# EAGLE library part DF9-31 (library Connectors)
Hirose DF9 Series SMD connector 31-pin connector
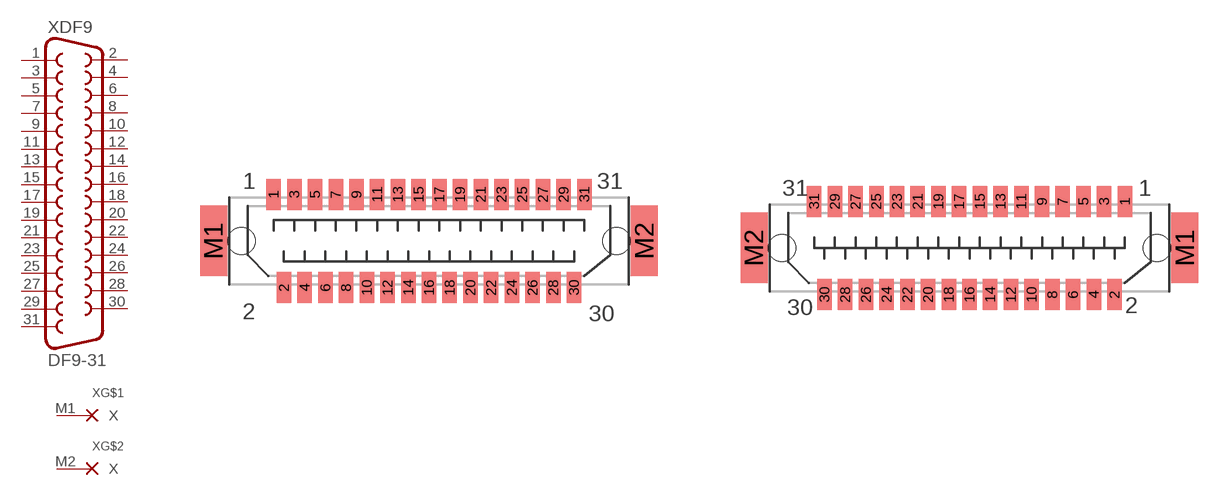
[diagram p1: symbol with the pads of DF9-31S; footprints DF9-31S, DF9-31P]

Designator prefix X; gates DF9=DF9-31 G$1=PIN_NC G$2=PIN_NC

## DF9-31S (DIGIKEY: H10406CT-ND; GENDER: Receptacle; MPN: DF9-31S-1V(32); PINS: 31)  [DF9-31S]
1  DF9:1  pas
2  DF9:2  pas
3  DF9:3  pas
4  DF9:4  pas
5  DF9:5  pas
6  DF9:6  pas
7  DF9:7  pas
8  DF9:8  pas
9  DF9:9  pas
10  DF9:10  pas
11  DF9:11  pas
12  DF9:12  pas
13  DF9:13  pas
14  DF9:14  pas
15  DF9:15  pas
16  DF9:16  pas
17  DF9:17  pas
18  DF9:18  pas
19  DF9:19  pas
20  DF9:20  pas
21  DF9:21  pas
22  DF9:22  pas
23  DF9:23  pas
24  DF9:24  pas
25  DF9:25  pas
26  DF9:26  pas
27  DF9:27  pas
28  DF9:28  pas
29  DF9:29  pas
30  DF9:30  pas
31  DF9:31  pas
M1  G$1:X  nc
M2  G$2:X  nc

## DF9-31P (DIIGKEY: H10418CT-ND; GENDER: Header; MPN: DF9-31P-1V(32); PINS: 31)  [DF9-31P]
Pads as for DF9-31S

## Footprint DF9-31S (pad centres in mm)
CONNECTOR
smd 0.7 x 1.5: 1 -7.5,2.25; 2 -7,-2.25; 3 -6.5,2.25; 4 -6,-2.25; 5 -5.5,2.25; 6 -5,-2.25; 7 -4.5,2.25; 8 -4,-2.25; 9 -3.5,2.25; 10 -3,-2.25; 11 -2.5,2.25; 12 -2,-2.25; 13 -1.5,2.25; 14 -1,-2.25; 15 -0.5,2.25; 16 0,-2.25; 17 0.5,2.25; 18 1,-2.25; 19 1.5,2.25; 20 2,-2.25; 21 2.5,2.25; 22 3,-2.25; 23 3.5,2.25; 24 4,-2.25; 25 4.5,2.25; 26 5,-2.25; 27 5.5,2.25; 28 6,-2.25; 29 6.5,2.25; 30 7,-2.25; 31 7.5,2.25
smd 1.3 x 3.4: M1 -10.4,0; M2 10.4,0
hole 1.321 at 9.05,0
hole 1.321 at -9.05,0

## Footprint DF9-31P (pad centres in mm)
smd 0.7 x 1.5: 1 7.5,2.25; 2 7,-2.25; 3 6.5,2.25; 4 6,-2.25; 5 5.5,2.25; 6 5,-2.25; 7 4.5,2.25; 8 4,-2.25; 9 3.5,2.25; 10 3,-2.25; 11 2.5,2.25; 12 2,-2.25; 13 1.5,2.25; 14 1,-2.25; 15 0.5,2.25; 16 0,-2.25; 17 -0.5,2.25; 18 -1,-2.25; 19 -1.5,2.25; 20 -2,-2.25; 21 -2.5,2.25; 22 -3,-2.25; 23 -3.5,2.25; 24 -4,-2.25; 25 -4.5,2.25; 26 -5,-2.25; 27 -5.5,2.25; 28 -6,-2.25; 29 -6.5,2.25; 30 -7,-2.25; 31 -7.5,2.25
smd 1.3 x 3.4: M1 10.4,0; M2 -10.4,0
hole 1.321 at 9.05,0
hole 1.321 at -9.05,0